# Altium schematic symbol library SCH - LOGIC - 74LVC1G157.SCHLIB: 1 symbol
Pins are listed as number, name and electrical type; pins without a type are passive.

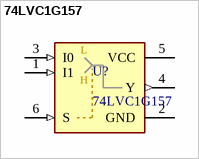
[diagram p0: symbol 74LVC1G157]

## 74LVC1G157
designator U?
pins: 1 I1 (in), 2 GND (power), 3 I0 (in), 4 Y (out), 5 VCC (power), 6 S (in)
text: L; H